# Altium schematic symbol library CON3_CUI_PJ-202A.SchLib: 1 symbol
Pins are listed as number, name and electrical type; pins without a type are passive.

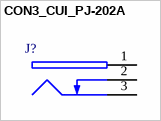
[diagram p0: symbol CON3_CUI_PJ-202A]

## CON3_CUI_PJ-202A
designator J?
pins: 1, 2, 3